# Altium schematic symbol library TTP229-BSF.SchLib: 1 symbol
Pins are listed as number, name and electrical type; pins without a type are passive.

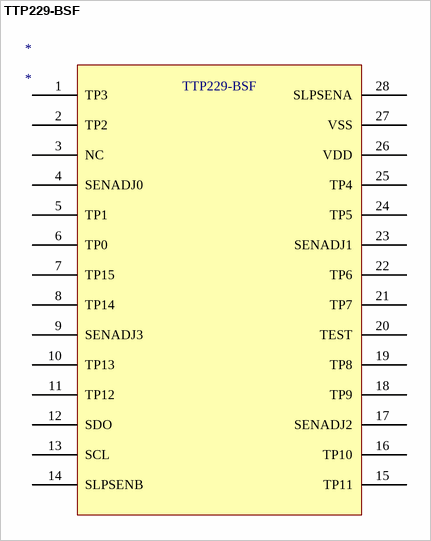
[diagram p0: symbol TTP229-BSF]

## TTP229-BSF
designator *
footprint SSOP-28
pins: 1 TP3, 2 TP2, 3 NC, 4 SENADJ0, 5 TP1, 6 TP0, 7 TP15, 8 TP14, 9 SENADJ3, 10 TP13, 11 TP12, 12 SDO, 13 SCL, 14 SLPSENB, 15 TP11, 16 TP10, 17 SENADJ2, 18 TP9, 19 TP8, 20 TEST, 21 TP7, 22 TP6, 23 SENADJ1, 24 TP5, 25 TP4, 26 VDD, 27 VSS, 28 SLPSENA